# EAGLE library part 613028243121 (library Board_to_Board_Connectors_rev15d)
WR-PHD Angled Dual Socket Header, 28 Pins =>Code : Con_BTB_SHD_2.54_2_613028243121 <http://katalog.we-online.de/media/images/eican/Con_BTB_SHD_2.54_2_6130xx243121_pf2.jpg> Details see: http://katalog.we-online.de/en/em/613_0xx_243_121 Created 2014-05-30, Karrer Zheng 2014 (C) Würth Elektronik
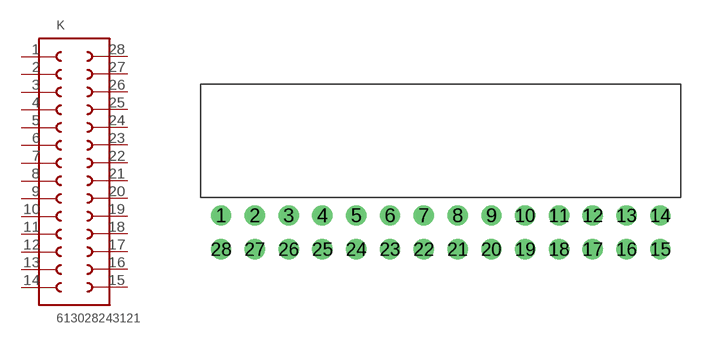
[diagram p149: symbol with the pads of 613028243121; footprint 613028243121]

Designator prefix K

## 613028243121  [613028243121]
1  1  pas
2  2  pas
3  3  pas
4  4  pas
5  5  pas
6  6  pas
7  7  pas
8  8  pas
9  9  pas
10  10  pas
11  11  pas
12  12  pas
13  13  pas
14  14  pas
15  15  pas
16  16  pas
17  17  pas
18  18  pas
19  19  pas
20  20  pas
21  21  pas
22  22  pas
23  23  pas
24  24  pas
25  25  pas
26  26  pas
27  27  pas
28  28  pas

## Footprint 613028243121 (pad centres in mm)
WR-PHD Angled Dual Socket Header, 28 Pins
drill 1.02: 1 -16.51,0; 2 -13.97,0; 3 -11.43,0; 4 -8.89,0; 5 -6.35,0; 6 -3.81,0; 7 -1.27,0; 8 1.27,0; 9 3.81,0; 10 6.35,0; 11 8.89,0; 12 11.43,0; 13 13.97,0; 14 16.51,0; 15 16.51,-2.54; 16 13.97,-2.54; 17 11.43,-2.54; 18 8.89,-2.54; 19 6.35,-2.54; 20 3.81,-2.54; 21 1.27,-2.54; 22 -1.27,-2.54; 23 -3.81,-2.54; 24 -6.35,-2.54; 25 -8.89,-2.54; 26 -11.43,-2.54; 27 -13.97,-2.54; 28 -16.51,-2.54